# Altium integrated library MPM3610GQV-P.IntLib: 1 symbol
Pins are listed as number, name and electrical type; pins without a type are passive.

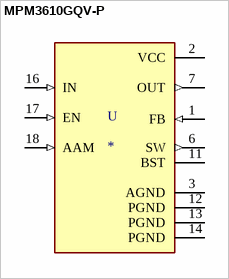
[diagram p0: symbol MPM3610GQV-P]

## MPM3610GQV-P
designator U
Non-Isolated PoL Module DC DC Converter 1 Output 0.8 ~ 18.48V 1.2A 4.5V - 21V Input; MP: MPM3610GQV-P; MF: Monolithic Power; SnapEDA_Link: https://www.snapeda.com/parts/MPM3610GQV-P/Monolithic%20Power%20Systems%20Inc./view-part/702293/?ref=snap; Package: QFN-20 Monolithic Power Systems; Value: *; Digi-Key_Part_Number: 1589-1250-1-ND; Digi-Key_Purchase_URL: https://www.digikey.com/product-detail/en/monolithic-power-systems-inc/MPM3610GQV-P/1589-1250-1-ND/5298337?utm_source=snapeda&utm_medium=aggregator&utm_campaign=symbol
footprint CONV_MPM3610GQV-P
pins: 1 FB (in), 2 VCC (power), 3 AGND (power), 6 SW (out), 7 OUT (out), 11 BST, 12 PGND (power), 13 PGND (power), 14 PGND (power), 16 IN (in), 17 EN (in), 18 AAM (in)